# Altium integrated library EEE-1VA100WR.IntLib: 1 symbol
Pins are listed as number, name and electrical type; pins without a type are passive.

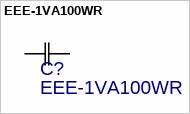
[diagram p0: symbol EEE-1VA100WR]

## EEE-1VA100WR
designator C?
C: Copyright (C) 2015 Accelerated Designs. All rights reserved; Vendor: Panasonic; Built_By: EMA_UL_Team; Manufacturer_Part_Number: EEE-1VA100WR; Value: EEE-1VA100WR
footprint CAP_EEE_B
pins: 1, 2
1 alternate drawing of the same symbol